# Altium schematic symbol library algovision.SchLib: 16 symbols
Pins are listed as number, name and electrical type; pins without a type are passive.

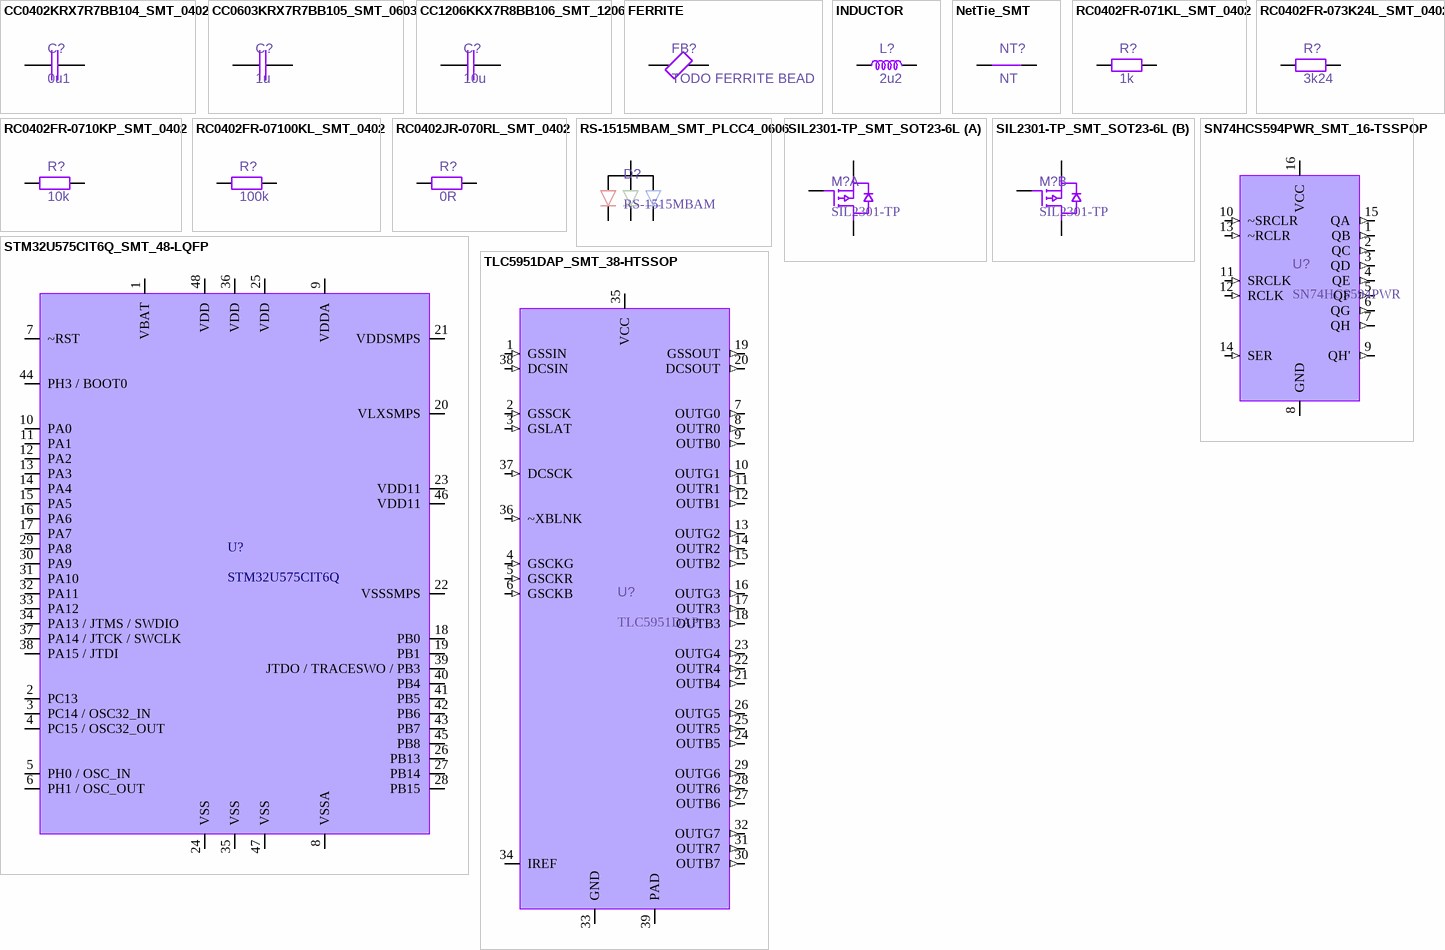
[diagram p0: symbols CC0402KRX7R7BB104_SMT_0402 to TLC5951DAP_SMT_38-HTSSOP]

## CC0402KRX7R7BB104_SMT_0402
designator C?, comment 0u1
0402 SMT 0u1 16V X7R ceramic capacitor; Manufacturer: YAGEO; Manufacturer Part Number: CC0402KRX7R7BB104; Supplier: DigiKey; Supplier Part Number: 311-1338; Package: 0402; Height (Max): 0.55; ComponentLink1Description: Datasheet; ComponentLink1URL: https://www.yageo.com/upload/media/product/productsearch/datasheet/mlcc/UPY-GPHC_X7R_6.3V-to-250V_23.pdf; ComponentLink2Description: Supplier Link; ComponentLink2URL: https://www.digikey.co.nz/en/products/detail/yageo/CC0402KRX7R7BB104/2103076
footprint CC0402KRX7R7BB104_SMT_0402
pins: 1, 2

## CC0603KRX7R7BB105_SMT_0603
designator C?, comment 1u
0603 SMT 1u 16V X7R ceramic capacitor; Manufacturer: YAGEO; Manufacturer Part Number: CC0603KRX7R7BB105; Supplier: DigiKey; Supplier Part Number: 311-1446; Package: 0603; Height (Max): 0.9; ComponentLink1Description: Datasheet; ComponentLink1URL: https://www.yageo.com/upload/media/product/productsearch/datasheet/mlcc/UPY-GPHC_X7R_6.3V-to-250V_23.pdf; ComponentLink2Description: Supplier Link; ComponentLink2URL: https://www.digikey.co.nz/en/products/detail/yageo/CC0603KRX7R7BB105/2833611
footprint CC0603KRX7R7BB105_SMT_0603
pins: 1, 2

## CC1206KKX7R8BB106_SMT_1206
designator C?, comment 10u
1206 SMT 10u 25V X7R ceramic capacitor; Manufacturer: YAGEO; Manufacturer Part Number: CC1206KKX7R8BB106; Supplier: DigiKey; Supplier Part Number: 311-1959; Package: 1206; Height (Max): 1.8; ComponentLink1Description: Datasheet; ComponentLink1URL: https://www.yageo.com/upload/media/product/productsearch/datasheet/mlcc/UPY-GPHC_X7R_6.3V-to-250V_23.pdf; ComponentLink2Description: Supplier Link; ComponentLink2URL: https://www.digikey.co.nz/en/products/detail/yageo/CC1206KKX7R8BB106/5195365
footprint CC1206KKX7R8BB106_SMT_1206
pins: 1, 2

## FERRITE
designator FB?, comment TODO FERRITE BEAD
pins: 1, 2

## INDUCTOR
designator L?, comment 2u2
TODO INDUCTOR
pins: 1, 2

## NetTie_SMT
designator NT?, comment NT  (net tie, no BOM)
Net Tie SMT
footprint NetTie_SMT
pins: 1, 2

## RC0402FR-071KL_SMT_0402
designator R?, comment 1k
0402 SMT 1k chip resistor; Manufacturer: YAGEO; Manufacturer Part Number: RC0402FR-071KL; Supplier: DigiKey; Supplier Part Number: 311-1.00KLR; Package: 0402; Height (Max): 0.4; ComponentLink1Description: Datasheet; ComponentLink1URL: https://www.yageo.com/upload/media/product/productsearch/datasheet/rchip/PYu-RC_Group_51_RoHS_L_12.pdf; ComponentLink2Description: Supplier Link; ComponentLink2URL: https://www.digikey.co.nz/en/products/detail/yageo/RC0402FR-071KL/726513
footprint RC0402FR-071KL_SMT_0402
pins: 1, 2

## RC0402FR-073K24L_SMT_0402
designator R?, comment 3k24
0402 SMT 3k24 chip resistor; Manufacturer: YAGEO; Manufacturer Part Number: RC0402FR-073K24L; Supplier: DigiKey; Supplier Part Number: YAG3147; Package: 0402; Height (Max): 0.4; ComponentLink1Description: Datasheet; ComponentLink1URL: https://www.yageo.com/upload/media/product/productsearch/datasheet/rchip/PYu-RC_Group_51_RoHS_L_12.pdf; ComponentLink2Description: Supplier Link; ComponentLink2URL: https://www.digikey.co.nz/en/products/detail/yageo/RC0402FR-073K24L/5281007
footprint RC0402FR-073K24L_SMT_0402
pins: 1, 2

## RC0402FR-0710KP_SMT_0402
designator R?, comment 10k
0402 SMT 10k chip resistor; Manufacturer: YAGEO; Manufacturer Part Number: RC0402FR-0710KP; Supplier: DigiKey; Supplier Part Number: YAG1249; Package: 0402; Height (Max): 0.4; ComponentLink1Description: Datasheet; ComponentLink1URL: https://www.yageo.com/upload/media/product/productsearch/datasheet/rchip/PYu-RC_51_RoHS_P_5.pdf; ComponentLink2Description: Supplier Link; ComponentLink2URL: https://www.digikey.co.nz/en/products/detail/yageo/RC0402FR-0710KP/4935264
footprint RC0402FR-0710KP_SMT_0402
pins: 1, 2

## RC0402FR-07100KL_SMT_0402
designator R?, comment 100k
0402 SMT 100k chip resistor; Manufacturer: YAGEO; Manufacturer Part Number: RC0402FR-07100KL; Supplier: DigiKey; Supplier Part Number: 311-100KLR; Package: 0402; Height (Max): 0.4; ComponentLink1Description: Datasheet; ComponentLink1URL: https://www.yageo.com/upload/media/product/productsearch/datasheet/rchip/PYu-RC_Group_51_RoHS_L_12.pdf; ComponentLink2Description: Supplier Link; ComponentLink2URL: https://www.digikey.co.nz/en/products/detail/yageo/RC0402FR-07100KL/726526
footprint RC0402FR-07100KL_SMT_0402
pins: 1, 2

## RC0402JR-070RL_SMT_0402
designator R?, comment 0R
0402 SMT 0R jumper; Manufacturer: YAGEO; Manufacturer Part Number: RC0402JR-070RL; Supplier: DigiKey; Supplier Part Number: 311-0.0JR; Package: 0402; Height (Max): 0.4; ComponentLink1Description: Datasheet; ComponentLink1URL: https://www.yageo.com/upload/media/product/productsearch/datasheet/rchip/PYu-RC_51_RoHS_P_5.pdf; ComponentLink2Description: Supplier Link; ComponentLink2URL: https://www.digikey.co.nz/en/products/detail/yageo/RC0402JR-070RL/726406
footprint RC0402JR-070RL_SMT_0402
pins: 1, 2

## RS-1515MBAM_SMT_PLCC4_0606
designator D?, comment RS-1515MBAM
PLCC4 0606 SMT common anode RGB LED; Manufacturer: Foshan NationStar Optoelectronics; ComponentLink1Description: Datasheet; ComponentLink1URL: https://datasheet.lcsc.com/lcsc/2009051636_Foshan-NationStar-Optoelectronics-RS-1515MBAM_C727906.pdf; ComponentLink2Description: Supplier Link; ComponentLink2URL: https://www.lcsc.com/product-detail/Light-Emitting-Diodes-LED_Foshan-NationStar-Optoelectronics-RS-1515MBAM_C727906.html; Height (Max): 1.1; Package: PLCC4 0606; Supplier Part Number: C727906; Supplier: LCSC; Manufacturer Part Number: RS-1515MBAM
footprint RS-1515MBAM_SMT_PLCC4_0606
pins: 1 Red "Red cathode", 2 Anode "Common anode", 3 Blue "Blue cathode", 4 Green "Green cathode"

## SIL2301-TP_SMT_SOT23-6L
designator M?, comment SIL2301-TP
SOT23-6L SMT dual P-channel MOSFET; Manufacturer: Micro Commercial Components; Manufacturer Part Number: SIL2301-TP; Supplier: DigiKey; Supplier Part Number: SIL2301-TPMS; Package: SOT23-6L; Height (Max): 1.3; ComponentLink1Description: Datasheet; ComponentLink1URL: https://www.mccsemi.com/pdf/Products/SIL2301(SOT23-6L).pdf; ComponentLink2Description: Supplier Link; ComponentLink2URL: https://www.digikey.co.nz/en/products/detail/micro-commercial-co/SIL2301-TP/9655969
footprint SIL2301-TP_SMT_SOT23-6L
part A pins: 1 Gate "Gate 1", 5 Source "Source 1", 6 Drain "Drain 1"
part B pins: 2 Source "Source 2", 3 Gate "Gate 2", 4 Drain "Drain 2"

## SN74HCS594PWR_SMT_16-TSSPOP
designator U?, comment SN74HCS594PWR
16-TSSOP SMT 8 bit shift register; Manufacturer: Texas Instruments; Manufacturer Part Number: SN74HCS594PWR; Supplier: DigiKey; ComponentLink1Description: Datasheet; ComponentLink1URL: https://www.ti.com/lit/ds/symlink/sn74hcs594.pdf; ComponentLink2Description: Supplier Link; ComponentLink2URL: https://www.digikey.co.nz/en/products/detail/texas-instruments/SN74HCS594PWR/13532304; Supplier Part Number: 296-SN74HCS594PWR; Package: 16-TSSOP; Height (Max): 1.2
footprint SN74HCS594PWR_SMT_16-TSSOP
pins: 1 QB (out), 2 QC (out), 3 QD (out), 4 QE (out), 5 QF (out), 6 QG (out), 7 QH (out), 8 GND (power), 9 QH' (out) "Serial output, can be used for cascading", 10 ~SRCLR (in) "Shift register clear, active low", 11 SRCLK (in) "Shift register clock, rising edge triggered", 12 RCLK (in) "Output register clock, rising edge triggered", 13 ~RCLR (in) "Storage register clear, active low", 14 SER (in) "Serial input", 15 QA (out), 16 VCC (power)

## STM32U575CIT6Q_SMT_48-LQFP
designator U?, comment STM32U575CIT6Q
48-LQFP SMT STM32U5 32-bit ARM Cortex-M33 microcontroller; Manufacturer: STMicroelectronics; ComponentLink1Description: Datasheet; ComponentLink1URL: https://www.st.com/resource/en/datasheet/stm32u575ag.pdf; ComponentLink2Description: Supplier Link; ComponentLink2URL: https://www.digikey.co.nz/en/products/detail/stmicroelectronics/STM32U575CIT6Q/18085454; Manufacturer Part Number: STM32U575CIT6Q; Supplier: DigiKey; Supplier Part Number: 497-STM32U575CIT6Q-ND; Package: 48-LQFP; Height (Max): 1.6
footprint STM32U575CIT6Q_SMT_48-LQFP
pins: 1 VBAT (power), 2 PC13 (io), 3 PC14 / OSC32_IN (io), 4 PC15 / OSC32_OUT (io), 5 PH0 / OSC_IN (io), 6 PH1 / OSC_OUT (io), 7 ~RST (io), 8 VSSA (power), 9 VDDA (power), 10 PA0 (io), 11 PA1 (io), 12 PA2 (io), 13 PA3 (io), 14 PA4 (io), 15 PA5 (io), 16 PA6 (io), 17 PA7 (io), 18 PB0 (io), 19 PB1 (io), 20 VLXSMPS (power), 21 VDDSMPS (power), 22 VSSSMPS (power), 23 VDD11 (power), 24 VSS (power), 25 VDD (power), 26 PB13 (io), 27 PB14 (io), 28 PB15 (io), 29 PA8 (io), 30 PA9 (io), 31 PA10 (io), 32 PA11 (io), 33 PA12 (io), 34 PA13 / JTMS / SWDIO (io), 35 VSS (power), 36 VDD (power), 37 PA14 / JTCK / SWCLK (io), 38 PA15 / JTDI (io), 39 JTDO / TRACESWO / PB3 (io), 40 PB4 (io) "(NJTRST)", 41 PB5 (io), 42 PB6 (io), 43 PB7 (io), 44 PH3 / BOOT0 (io), 45 PB8 (io), 46 VDD11 (power), 47 VSS (power), 48 VDD (power)

## TLC5951DAP_SMT_38-HTSSOP
designator U?, comment TLC5951DAP
38-HTSSOP SMT 24 output linear shift register LED driver; Manufacturer: Texas Instruments; ComponentLink1Description: Datasheet; ComponentLink1URL: https://www.ti.com/general/docs/suppproductinfo.tsp?distId=10&gotoUrl=https%3A%2F%2Fwww.ti.com%2Flit%2Fgpn%2Ftlc5951; ComponentLink2Description: Supplier Link; ComponentLink2URL: https://www.digikey.co.nz/en/products/detail/texas-instruments/TLC5951DAP/2187574; Manufacturer Part Number: TLC5951DAP; Supplier: DigiKey; Supplier Part Number: 296-25461-5-ND; Package: 38-HTSSOP; Height (Max): 1.2
footprint TLC5951DAP_SMT_38-HTSSOP
pins: 1 GSSIN (in) "Serial data input for common register", 2 GSSCK (in) "Serial data shift clock for common register", 3 GSLAT (in) "Data latch signal for common register", 4 GSCKG (in) "Green output greyscale PWM reference clock", 5 GSCKR (in) "Red output greyscale PWM reference clock", 6 GSCKB (in) "Blue output greyscale PWM reference clock", 7 OUTG0 (out), 8 OUTR0 (out), 9 OUTB0 (out), 10 OUTG1 (out), 11 OUTR1 (out), 12 OUTB1 (out), 13 OUTG2 (out), 14 OUTR2 (out), 15 OUTB2 (out), 16 OUTG3 (out), 17 OUTR3 (out), 18 OUTB3 (out), 19 GSSOUT (out) "Serial data output for common register", 20 DCSOUT (out) "Serial data output for special register", 21 OUTB4 (out), 22 OUTR4 (out), 23 OUTG4 (out), 24 OUTB5 (out), 25 OUTR5 (out), 26 OUTG5 (out), 27 OUTB6 (out), 28 OUTR6 (out), 29 OUTG6 (out), 30 OUTB7 (out), 31 OUTR7 (out), 32 OUTG7 (out), 33 GND (power), 34 IREF (io) "Maximum current reference", 35 VCC (power), 36 ~XBLNK (in) "Output disable", 37 DCSCK (in) "Serial data shift clock for special register", 38 DCSIN (in) "Serial data input for special register", 39 PAD (power)